# EAGLE library part ATMEGA4808-XF (library 2023-10-27_19-24-51_Library)
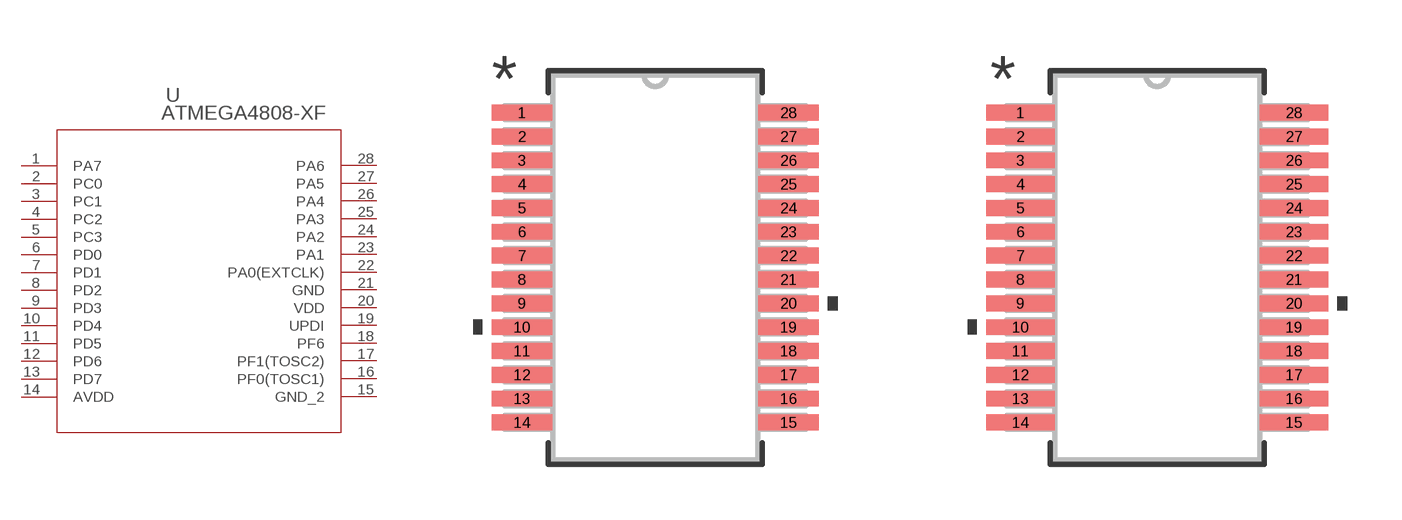
[diagram p0: symbol with the pads of SSOP28_SS_MCH; footprints SSOP28_SS_MCH, SSOP28_SS_MCH-M]

Designator prefix U

## ATMEGA4808-XFSSOP28_SS_MCH (Copyright: Copyright (C) 2023 Ultra Librarian. All rights reserved.; Manufacturer_Part_Number: ATMEGA4808-XF; Mfr_Name: Microchip)  [SSOP28_SS_MCH]
1  PA7
2  PC0
3  PC1
4  PC2
5  PC3
6  PD0
7  PD1
8  PD2
9  PD3
10  PD4
11  PD5
12  PD6
13  PD7
14  AVDD  pwr
15  GND_2  pas
16  PF0(TOSC1)
17  PF1(TOSC2)
18  PF6
19  UPDI
20  VDD  pwr
21  GND  pas
22  PA0(EXTCLK)
23  PA1
24  PA2
25  PA3
26  PA4
27  PA5
28  PA6

## ATMEGA4808-XFSSOP28_SS_MCH-M (Copyright: Copyright (C) 2023 Ultra Librarian. All rights reserved.; Manufacturer_Part_Number: ATMEGA4808-XF; Mfr_Name: Microchip)  [SSOP28_SS_MCH-M]
Pads as for SSOP28_SS_MCH

## ATMEGA4808-XFSSOP28_SS_MCH-L (Copyright: Copyright (C) 2023 Ultra Librarian. All rights reserved.; Manufacturer_Part_Number: ATMEGA4808-XF; Mfr_Name: Microchip)  [SSOP28_SS_MCH-L]
Pads as for SSOP28_SS_MCH

## Footprint SSOP28_SS_MCH (pad centres in mm)
smd 1.651 x 0.432: 1 -3.632,4.225; 2 -3.632,3.575; 3 -3.632,2.925; 4 -3.632,2.275; 5 -3.632,1.625; 6 -3.632,0.975; 7 -3.632,0.325; 8 -3.632,-0.325; 9 -3.632,-0.975; 10 -3.632,-1.625; 11 -3.632,-2.275; 12 -3.632,-2.925; 13 -3.632,-3.575; 14 -3.632,-4.225; 15 3.632,-4.225; 16 3.632,-3.575; 17 3.632,-2.925; 18 3.632,-2.275; 19 3.632,-1.625; 20 3.632,-0.975; 21 3.632,-0.325; 22 3.632,0.325; 23 3.632,0.975; 24 3.632,1.625; 25 3.632,2.275; 26 3.632,2.925; 27 3.632,3.575; 28 3.632,4.225

## Footprint SSOP28_SS_MCH-M (pad centres in mm)
smd 1.867 x 0.432: 1 -3.727,4.225; 2 -3.727,3.575; 3 -3.727,2.925; 4 -3.727,2.275; 5 -3.727,1.625; 6 -3.727,0.975; 7 -3.727,0.325; 8 -3.727,-0.325; 9 -3.727,-0.975; 10 -3.727,-1.625; 11 -3.727,-2.275; 12 -3.727,-2.925; 13 -3.727,-3.575; 14 -3.727,-4.225; 15 3.727,-4.225; 16 3.727,-3.575; 17 3.727,-2.925; 18 3.727,-2.275; 19 3.727,-1.625; 20 3.727,-0.975; 21 3.727,-0.325; 22 3.727,0.325; 23 3.727,0.975; 24 3.727,1.625; 25 3.727,2.275; 26 3.727,2.925; 27 3.727,3.575; 28 3.727,4.225

## Footprint SSOP28_SS_MCH-L (pad centres in mm)
smd 1.346 x 0.381: 1 -3.581,4.225; 2 -3.581,3.575; 3 -3.581,2.925; 4 -3.581,2.275; 5 -3.581,1.625; 6 -3.581,0.975; 7 -3.581,0.325; 8 -3.581,-0.325; 9 -3.581,-0.975; 10 -3.581,-1.625; 11 -3.581,-2.275; 12 -3.581,-2.925; 13 -3.581,-3.575; 14 -3.581,-4.225; 15 3.581,-4.225; 16 3.581,-3.575; 17 3.581,-2.925; 18 3.581,-2.275; 19 3.581,-1.625; 20 3.581,-0.975; 21 3.581,-0.325; 22 3.581,0.325; 23 3.581,0.975; 24 3.581,1.625; 25 3.581,2.275; 26 3.581,2.925; 27 3.581,3.575; 28 3.581,4.225